# Altium schematic symbol library Flight_Controller_Board_Design.SchLib: 11 symbols
Pins are listed as number, name and electrical type; pins without a type are passive.

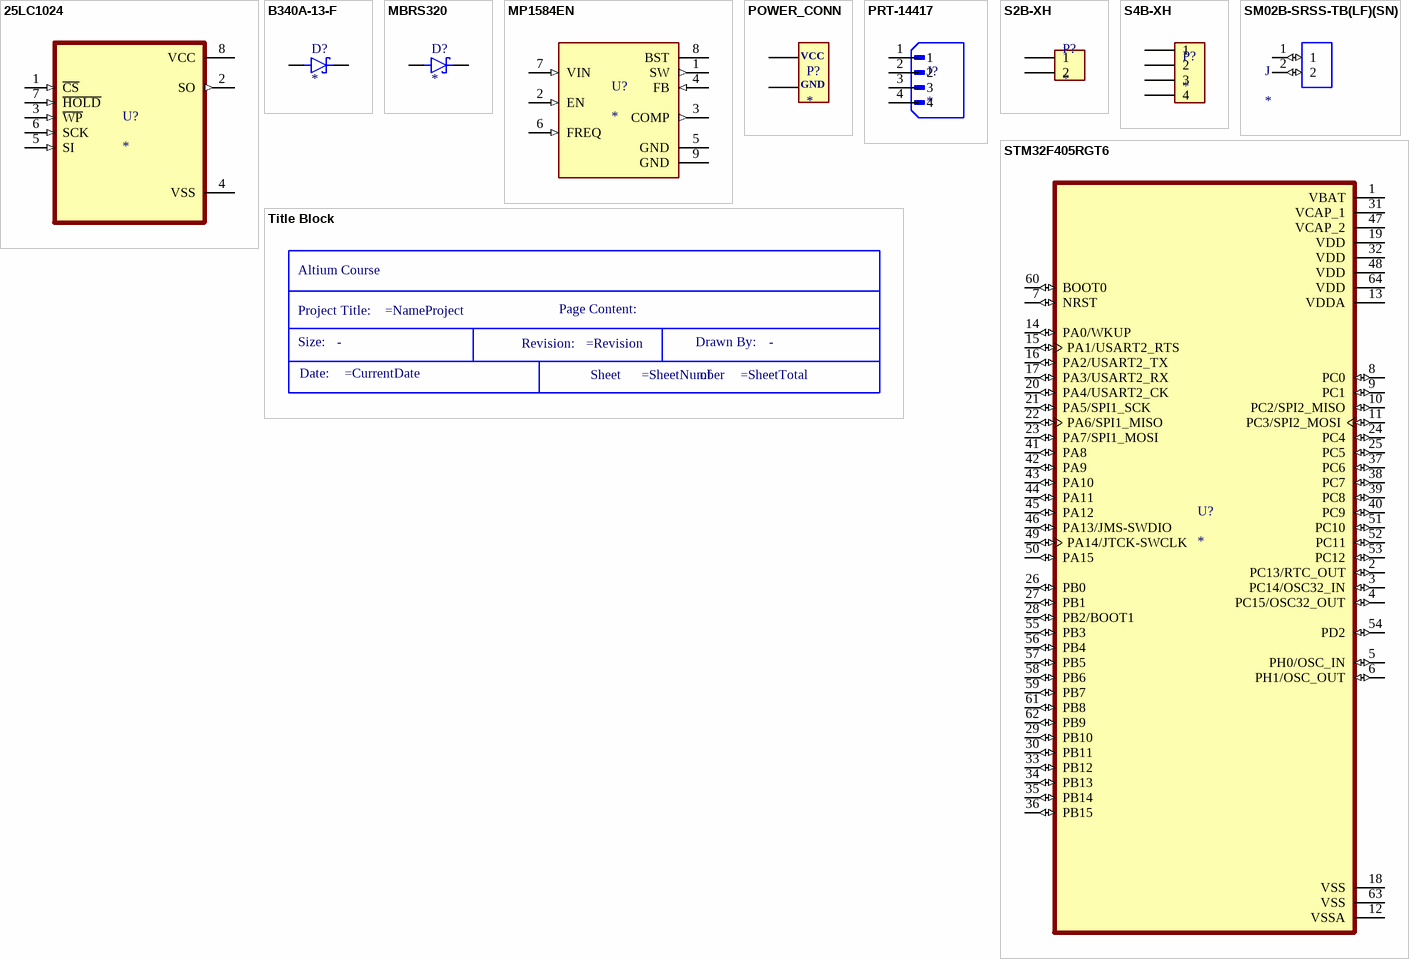
[diagram p0: symbols 25LC1024 to Title Block]

## 25LC1024
designator U?
EEPROM Memory IC 1Mb _128K x 8_ SPI 20MHz 8-SOIJ; MP: 25LC1024-I/SM; MF: Microchip; Price: None; SnapEDA_Link: https://www.snapeda.com/parts/25LC1024-I/SM/Microchip/view-part/223975/?ref=snap; Package: SOIC-8 Microchip; Value: *; Availability: Unavailable
footprint SOIC-8N
pins: 1 ~{CS} (in), 2 SO (out), 3 ~{WP} (in), 4 VSS (power), 5 SI (in), 6 SCK (in), 7 ~{HOLD} (in), 8 VCC (power)

## B340A-13-F
designator D?
Diode, Rectifier, 3a, 40v, Do-214ac, Full Reel; MP: B340A-13-F; Price: None; Value: *; Package: None; Availability: Unavailable
footprint DIOM5226X240N
pins: A, C

## MBRS320
designator D?
Diode Schottky 30 V 3A Surface Mount SMC; MP: MBRS320T3; MF: ON Semiconductor; Price: None; Package: SMC-2 ON Semiconductor; Value: *; Check_prices: https://www.snapeda.com/parts/MBRS320T3/Onsemi/view-part/?ref=eda; SnapEDA_Link: https://www.snapeda.com/parts/MBRS320T3/Onsemi/view-part/?ref=snap; Availability: In Stock; Purchase-URL: https://pricing.snapeda.com/search/part/MBRS320T3/?ref=eda
footprint DIOM7959X261N
pins: A, C K

## MP1584EN
designator U?
Buck Switching Regulator IC Positive Adjustable 0.8V 1 Output 3A 8-SOIC (0.154, 3.90mm Width) Exposed Pad; MP: MP1584EN; MF: Monolithic Power; Value: *; SnapEDA_Link: https://www.snapeda.com/parts/MP1584EN/Monolithic+Power+Systems+Inc./view-part/?ref=snap; Purchase-URL: https://pricing.snapeda.com/search/part/MP1584EN/?ref=eda; Check_prices: https://www.snapeda.com/parts/MP1584EN/Monolithic+Power+Systems+Inc./view-part/?ref=eda; Availability: In Stock; Price: None; Package: SOIC-8 Monolithic Power
footprint SOIC127P-9N
pins: 1 SW (out), 2 EN (in), 3 COMP (out), 4 FB (in), 5 GND (power), 6 FREQ (in), 7 VIN (in), 8 BST, 9 GND (power)

## POWER_CONN
designator P?
Li-on Battery Power Connector
footprint POWER_CONN (Power Connector)
pins: 0 VCC, 1 GND

## PRT-14417
designator J?
QWIIC JST CONNECTOR - SMD 4-PIN; MF: SparkFun Electronics; MP: PRT-14417; SnapEDA_Link: https://www.snapeda.com/parts/PRT-14417/SparkFun+Electronics/view-part/?ref=snap; Package: None; Value: *; Check_prices: https://www.snapeda.com/parts/PRT-14417/SparkFun+Electronics/view-part/?ref=eda
footprint SPARKFUN_PRT-14417
pins: 1, 2, 3, 4

## S2B-XH
designator P?
Connector Header Through Hole, Right Angle 2 position 0.098 (2.50mm); MF: JST Sales; MP: S2B-XH-A(LF)(SN); Purchase-URL: https://pricing.snapeda.com/search/part/S2B-XH-A(LF)(SN)/?ref=eda; Digi-Key_Part_Number: 455-2257-ND; Package: None; Check_prices: https://www.snapeda.com/parts/S2B-XH-A(LF)(SN)/JST+Sales+America+Inc./view-part/?ref=eda; Value: *; SnapEDA_Link: https://www.snapeda.com/parts/S2B-XH-A(LF)(SN)/JST+Sales+America+Inc./view-part/?ref=snap
footprint JST_S2B-XH
pins: 1, 2

## S4B-XH
designator P?
Conn Shrouded Header (4 Sides) HDR 4 POS 2.5mm Solder RA Side Entry Thru-Hole Box; MF: J.S.T. Manufacturing Co; MP: S4B-XH-A(LF)(SN); SnapEDA_Link: https://www.snapeda.com/parts/S4B-XH-A(LF)(SN)/ACT/view-part/?ref=snap; Availability: In Stock; Price: None; Value: *; Check_prices: https://www.snapeda.com/parts/S4B-XH-A(LF)(SN)/ACT/view-part/?ref=eda; Package: None
footprint JST_S4B-XH
pins: 1, 2, 3, 4

## SM02B-SRSS-TB(LF)(SN)
designator J
Connector Header Surface Mount, Right Angle 2 position 0.039 _1.00mm_; MP: SM02B-SRSS-TB_LF__SN_; MF: JST Sales; SnapEDA_Link: https://www.snapeda.com/parts/SM02B-SRSS-TB%28LF%29%28SN%29/JST%20Sales%20America%20Inc./view-part/447499/?ref=snap; Price: None; Value: *; Availability: Unavailable; Package: None
footprint SM02B-SRSS-TB(LF)(SN)
pins: 1 (io), 2 (io)

## STM32F405RGT6
designator U?
High-performance foundation line, ARM Cortex-M4 core with DSP and FPU, 1 Mbyte Flash, 168 MHz CPU, ART Accelerator; MP: STM32F405RGT6; Value: *; Purchase Link: https://ozdisan.com/Product/Detail/492033/STM32F405RGT6V; Package: 64LQFP; Availability: Unavailable
footprint QFP-64N
pins: 1 VBAT (power), 2 PC13/RTC_OUT (io), 3 PC14/OSC32_IN (io), 4 PC15/OSC32_OUT (io), 5 PH0/OSC_IN (io), 6 PH1/OSC_OUT (io), 7 NRST (io), 8 PC0 (io), 9 PC1 (io), 10 PC2/SPI2_MISO (io), 11 PC3/SPI2_MOSI (io), 12 VSSA (power), 13 VDDA (power), 14 PA0/WKUP (io), 15 PA1/USART2_RTS (io), 16 PA2/USART2_TX (io), 17 PA3/USART2_RX (io), 18 VSS (power), 19 VDD (power), 20 PA4/USART2_CK (io), 21 PA5/SPI1_SCK (io), 22 PA6/SPI1_MISO (io), 23 PA7/SPI1_MOSI (io), 24 PC4 (io), 25 PC5 (io), 26 PB0 (io), 27 PB1 (io), 28 PB2/BOOT1 (io), 29 PB10 (io), 30 PB11 (io), 31 VCAP_1 (power), 32 VDD (power), 33 PB12 (io), 34 PB13 (io), 35 PB14 (io), 36 PB15 (io), 37 PC6 (io), 38 PC7 (io), 39 PC8 (io), 40 PC9 (io), 41 PA8 (io), 42 PA9 (io), 43 PA10 (io), 44 PA11 (io), 45 PA12 (io), 46 PA13/JMS-SWDIO (io), 47 VCAP_2 (power), 48 VDD (power), 49 PA14/JTCK-SWCLK (io), 50 PA15 (io), 51 PC10 (io), 52 PC11 (io), 53 PC12 (io), 54 PD2 (io), 55 PB3 (io), 56 PB4 (io), 57 PB5 (io), 58 PB6 (io), 59 PB7 (io), 60 BOOT0 (io), 61 PB8 (io), 62 PB9 (io), 63 VSS (power), 64 VDD (power)

## Title Block
designator *  (value not drawn)  (graphical)
Size: -; Drawn By: -
text: Altium Course; Project Title:; Page Content:; Size:; Drawn By:; Revision:; Date:; Sheet; of